# Altium footprint library HS LC-H-5X2_R1XC1.PcbLib: 1 footprints
Each footprint in its own frame and in the unit in brackets; x right, y up, seen from the top. Pads: shape width x height; smd on the part's side, far side on the other; paste and mask are expansions set on the pad; w line width, h text height; cw(c..) or ccw(c..) is an arc to the next point about the centre after c.
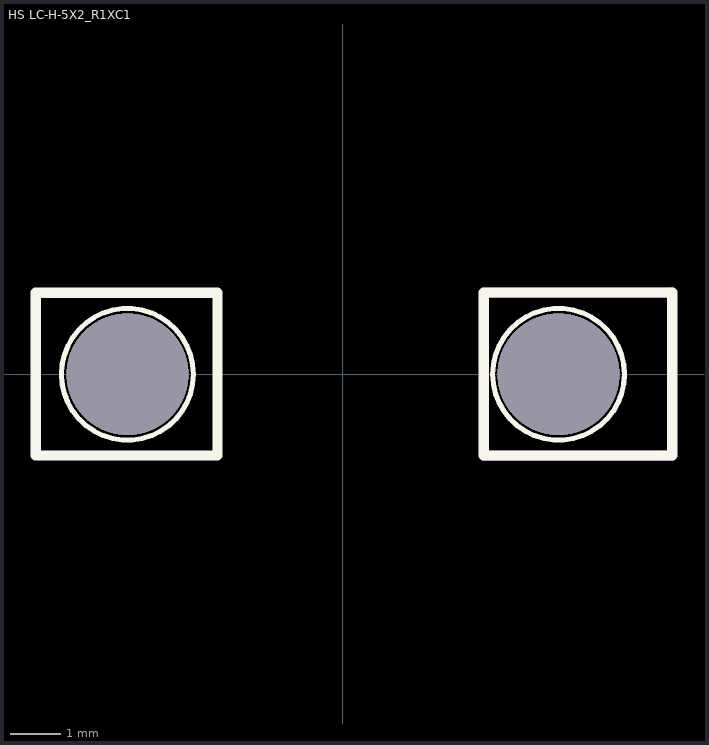
[diagram p0: the footprint, top view; thin cyan lines are the x and y axes]

## HS LC-H-5X2_R1XC1 [mm]
via 4.25,0 diameter 2.4 hole 2.4
via -4.25,0 diameter 2.4 hole 2.4
Top Overlay:
  circle w0.1: c-4.25,0 r1.3
  circle w0.1: c4.25,0 r1.3
  lines w0.2: -6.056,-1.598 -6.056,1.606 -2.473,1.606 -2.473,-1.598 -6.056,-1.598 ; 2.775,-1.603 2.775,1.612 6.49,1.612 6.49,-1.603 2.775,-1.603
Top Assembly:
  lines w0.2: 6.456,-1.607 2.782,-1.607 2.782,1.607 6.486,1.607 ; 6.486,-1.61 6.486,1.621
  text "'.Designator'" at 4.25,0 h0.7
3D body "2202314.STEP": height 7.63, standoff -2.85, extent -5.949,-1.496 12.341,1.504